# EAGLE library part DUMMY-QFN64 (library all-chips)
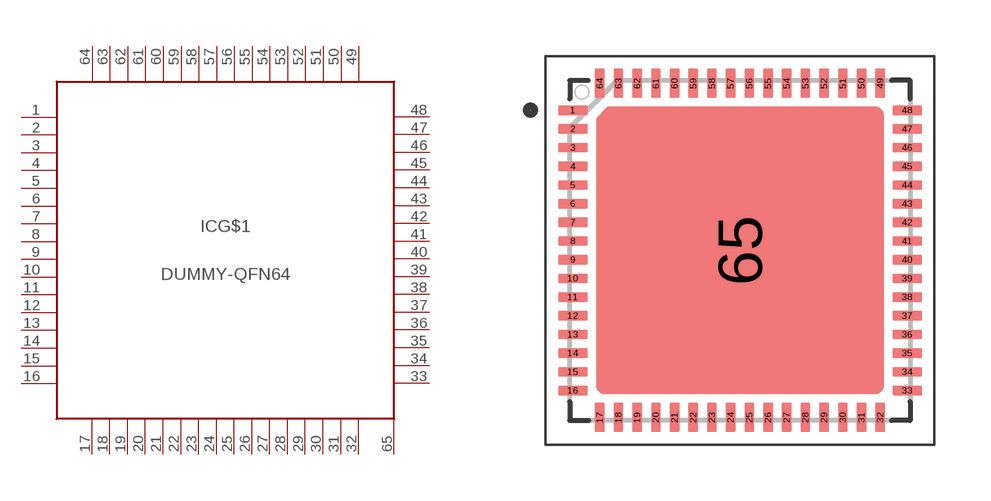
[diagram p28: symbol with the pads of QFN64_9.00X9.00MM; footprint QFN64_9.00X9.00MM]

Designator prefix IC; gates EP=PIN G$1=DUMMY_16-16-16-16

## DUMMY-QFN64  [QFN64_9.00X9.00MM]
1  G$1:1  pas
2  G$1:2  pas
3  G$1:3  pas
4  G$1:4  pas
5  G$1:5  pas
6  G$1:6  pas
7  G$1:7  pas
8  G$1:8  pas
9  G$1:9  pas
10  G$1:10  pas
11  G$1:11  pas
12  G$1:12  pas
13  G$1:13  pas
14  G$1:14  pas
15  G$1:15  pas
16  G$1:16  pas
17  G$1:17  pas
18  G$1:18  pas
19  G$1:19  pas
20  G$1:20  pas
21  G$1:21  pas
22  G$1:22  pas
23  G$1:23  pas
24  G$1:24  pas
25  G$1:25  pas
26  G$1:26  pas
27  G$1:27  pas
28  G$1:28  pas
29  G$1:29  pas
30  G$1:30  pas
31  G$1:31  pas
32  G$1:32  pas
33  G$1:33  pas
34  G$1:34  pas
35  G$1:35  pas
36  G$1:36  pas
37  G$1:37  pas
38  G$1:38  pas
39  G$1:39  pas
40  G$1:40  pas
41  G$1:41  pas
42  G$1:42  pas
43  G$1:43  pas
44  G$1:44  pas
45  G$1:45  pas
46  G$1:46  pas
47  G$1:47  pas
48  G$1:48  pas
49  G$1:49  pas
50  G$1:50  pas
51  G$1:51  pas
52  G$1:52  pas
53  G$1:53  pas
54  G$1:54  pas
55  G$1:55  pas
56  G$1:56  pas
57  G$1:57  pas
58  G$1:58  pas
59  G$1:59  pas
60  G$1:60  pas
61  G$1:61  pas
62  G$1:62  pas
63  G$1:63  pas
64  G$1:64  pas
65  EP:1  pas

## Footprint QFN64_9.00X9.00MM (pad centres in mm)
http://ww1.microchip.com/downloads/en/DeviceDoc/64L_QFN_9x9_with_7_7x7_7_EP_MR__C04-0213B.pdf
smd 0.79 x 0.26: 1 -4.47,3.75; 2 -4.47,3.25; 3 -4.47,2.75; 4 -4.47,2.25; 5 -4.47,1.75; 6 -4.47,1.25; 7 -4.47,0.75; 8 -4.47,0.25; 9 -4.47,-0.25; 10 -4.47,-0.75; 11 -4.47,-1.25; 12 -4.47,-1.75; 13 -4.47,-2.25; 14 -4.47,-2.75; 15 -4.47,-3.25; 16 -4.47,-3.75; 33 4.47,-3.75; 34 4.47,-3.25; 35 4.47,-2.75; 36 4.47,-2.25; 37 4.47,-1.75; 38 4.47,-1.25; 39 4.47,-0.75; 40 4.47,-0.25; 41 4.47,0.25; 42 4.47,0.75; 43 4.47,1.25; 44 4.47,1.75; 45 4.47,2.25; 46 4.47,2.75; 47 4.47,3.25; 48 4.47,3.75
smd 0.26 x 0.79: 17 -3.75,-4.47; 18 -3.25,-4.47; 19 -2.75,-4.47; 20 -2.25,-4.47; 21 -1.75,-4.47; 22 -1.25,-4.47; 23 -0.75,-4.47; 24 -0.25,-4.47; 25 0.25,-4.47; 26 0.75,-4.47; 27 1.25,-4.47; 28 1.75,-4.47; 29 2.25,-4.47; 30 2.75,-4.47; 31 3.25,-4.47; 32 3.75,-4.47; 49 3.75,4.47; 50 3.25,4.47; 51 2.75,4.47; 52 2.25,4.47; 53 1.75,4.47; 54 1.25,4.47; 55 0.75,4.47; 56 0.25,4.47; 57 -0.25,4.47; 58 -0.75,4.47; 59 -1.25,4.47; 60 -1.75,4.47; 61 -2.25,4.47; 62 -2.75,4.47; 63 -3.25,4.47; 64 -3.75,4.47
smd 7.15 x 7.15: 65 0,0